# Altium integrated library Actel ProASIC3E.IntLib: 182 symbols (part 24 of 49)
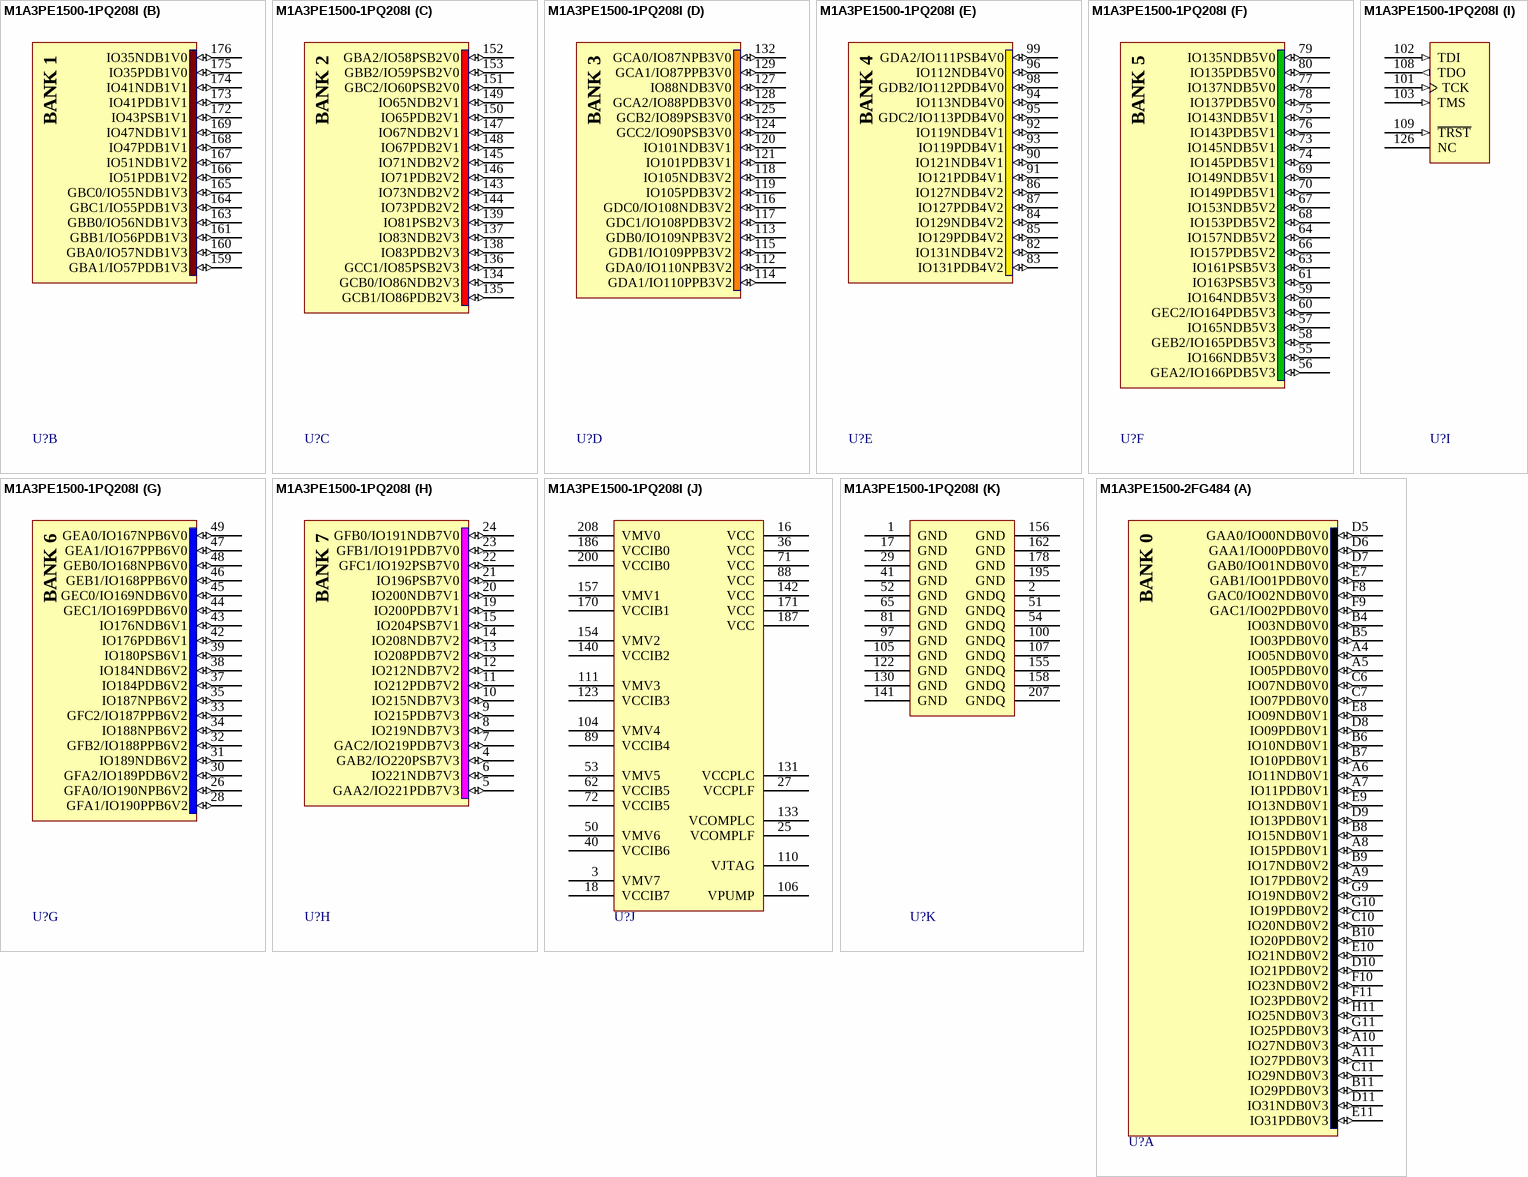
[diagram p329: symbols M1A3PE1500-1PQ208I to M1A3PE1500-2FG484]

## M1A3PE1500-1PQ208I
designator U?
M1-Ready ProASIC3E Flash Family FPGA, 147 User IOs, 1.5M System Gates, 270 Kbits RAM, 1 Kbit FlashROM, 2 PLLs, 208-Pin PQFP, Industrial Grade; DatasheetVersion: v1.1, Feb-2009; PackageVersion: ver11.2, Nov-2009; PackageReference: PQ208; PackageDescription: 208-Pin Plastic Quad Flat Pack (PQ208); Code_JEDEC: MS-029-FA-1; ComponentLink1Description: Manufacturer URL; ComponentLink1URL: http://www.actel.com/; ComponentLink2Description: ProASIC3 Datasheet; ComponentLink2URL: http://www.actel.com/documents/PA3E_DS.pdf; ComponentLink3Description: Package Mechanical Drawings; ComponentLink3URL: http://www.actel.com/documents/PckgMechDrwngs.pdf; ComponentLink4Description: ProASIC3 Documents; ComponentLink4URL: http://www.actel.com/products/pa3/docs.aspx
footprint PQ208_N (Shrink QFP, 208-Leads, Body 28x28mm, Pitch 0.5mm, IPC Medium Density)
footprint PQ208_L (Shrink QFP, 208-Leads, Body 28x28mm, Pitch 0.5mm, IPC High Density)
footprint PQ208_M (Shrink QFP, 208-Leads, Body 28x28mm, Pitch 0.5mm, IPC Low Density)
part A pins: 177 IO31PDB0V3 (io), 179 IO31NDB0V3 (io), 180 IO29PDB0V3 (io), 181 IO29NDB0V3 (io), 182 IO27PDB0V3 (io), 183 IO27NDB0V3 (io), 184 IO23PDB0V2 (io), 185 IO23NDB0V2 (io), 188 IO18PDB0V2 (io), 189 IO18NDB0V2 (io), 190 IO15PDB0V1 (io), 191 IO15NDB0V1 (io), 192 IO12PSB0V1 (io), 193 IO11PDB0V1 (io), 194 IO11NDB0V1 (io), 196 IO08PDB0V1 (io), 197 IO08NDB0V1 (io), 198 IO05PDB0V0 (io), 199 IO05NDB0V0 (io), 201 GAC1/IO02PDB0V0 (io), 202 GAC0/IO02NDB0V0 (io), 203 GAB1/IO01PDB0V0 (io), 204 GAB0/IO01NDB0V0 (io), 205 GAA1/IO00PDB0V0 (io), 206 GAA0/IO00NDB0V0 (io)
part B pins: 159 GBA1/IO57PDB1V3 (io), 160 GBA0/IO57NDB1V3 (io), 161 GBB1/IO56PDB1V3 (io), 163 GBB0/IO56NDB1V3 (io), 164 GBC1/IO55PDB1V3 (io), 165 GBC0/IO55NDB1V3 (io), 166 IO51PDB1V2 (io), 167 IO51NDB1V2 (io), 168 IO47PDB1V1 (io), 169 IO47NDB1V1 (io), 172 IO43PSB1V1 (io), 173 IO41PDB1V1 (io), 174 IO41NDB1V1 (io), 175 IO35PDB1V0 (io), 176 IO35NDB1V0 (io)
part C pins: 134 GCB0/IO86NDB2V3 (io), 135 GCB1/IO86PDB2V3 (io), 136 GCC1/IO85PSB2V3 (io), 137 IO83NDB2V3 (io), 138 IO83PDB2V3 (io), 139 IO81PSB2V3 (io), 143 IO73NDB2V2 (io), 144 IO73PDB2V2 (io), 145 IO71NDB2V2 (io), 146 IO71PDB2V2 (io), 147 IO67NDB2V1 (io), 148 IO67PDB2V1 (io), 149 IO65NDB2V1 (io), 150 IO65PDB2V1 (io), 151 GBC2/IO60PSB2V0 (io), 152 GBA2/IO58PSB2V0 (io), 153 GBB2/IO59PSB2V0 (io)
part D pins: 112 GDA0/IO110NPB3V2 (io), 113 GDB0/IO109NPB3V2 (io), 114 GDA1/IO110PPB3V2 (io), 115 GDB1/IO109PPB3V2 (io), 116 GDC0/IO108NDB3V2 (io), 117 GDC1/IO108PDB3V2 (io), 118 IO105NDB3V2 (io), 119 IO105PDB3V2 (io), 120 IO101NDB3V1 (io), 121 IO101PDB3V1 (io), 124 GCC2/IO90PSB3V0 (io), 125 GCB2/IO89PSB3V0 (io), 127 IO88NDB3V0 (io), 128 GCA2/IO88PDB3V0 (io), 129 GCA1/IO87PPB3V0 (io), 132 GCA0/IO87NPB3V0 (io)
part E pins: 82 IO131NDB4V2 (io), 83 IO131PDB4V2 (io), 84 IO129NDB4V2 (io), 85 IO129PDB4V2 (io), 86 IO127NDB4V2 (io), 87 IO127PDB4V2 (io), 90 IO121NDB4V1 (io), 91 IO121PDB4V1 (io), 92 IO119NDB4V1 (io), 93 IO119PDB4V1 (io), 94 IO113NDB4V0 (io), 95 GDC2/IO113PDB4V0 (io), 96 IO112NDB4V0 (io), 98 GDB2/IO112PDB4V0 (io), 99 GDA2/IO111PSB4V0 (io)
part F pins: 55 IO166NDB5V3 (io), 56 GEA2/IO166PDB5V3 (io), 57 IO165NDB5V3 (io), 58 GEB2/IO165PDB5V3 (io), 59 IO164NDB5V3 (io), 60 GEC2/IO164PDB5V3 (io), 61 IO163PSB5V3 (io), 63 IO161PSB5V3 (io), 64 IO157NDB5V2 (io), 66 IO157PDB5V2 (io), 67 IO153NDB5V2 (io), 68 IO153PDB5V2 (io), 69 IO149NDB5V1 (io), 70 IO149PDB5V1 (io), 73 IO145NDB5V1 (io), 74 IO145PDB5V1 (io), 75 IO143NDB5V1 (io), 76 IO143PDB5V1 (io), 77 IO137NDB5V0 (io), 78 IO137PDB5V0 (io), 79 IO135NDB5V0 (io), 80 IO135PDB5V0 (io)
part G pins: 26 GFA0/IO190NPB6V2 (io), 28 GFA1/IO190PPB6V2 (io), 30 GFA2/IO189PDB6V2 (io), 31 IO189NDB6V2 (io), 32 GFB2/IO188PPB6V2 (io), 33 GFC2/IO187PPB6V2 (io), 34 IO188NPB6V2 (io), 35 IO187NPB6V2 (io), 37 IO184PDB6V2 (io), 38 IO184NDB6V2 (io), 39 IO180PSB6V1 (io), 42 IO176PDB6V1 (io), 43 IO176NDB6V1 (io), 44 GEC1/IO169PDB6V0 (io), 45 GEC0/IO169NDB6V0 (io), 46 GEB1/IO168PPB6V0 (io), 47 GEA1/IO167PPB6V0 (io), 48 GEB0/IO168NPB6V0 (io), 49 GEA0/IO167NPB6V0 (io)
part H pins: 4 GAB2/IO220PSB7V3 (io), 5 GAA2/IO221PDB7V3 (io), 6 IO221NDB7V3 (io), 7 GAC2/IO219PDB7V3 (io), 8 IO219NDB7V3 (io), 9 IO215PDB7V3 (io), 10 IO215NDB7V3 (io), 11 IO212PDB7V2 (io), 12 IO212NDB7V2 (io), 13 IO208PDB7V2 (io), 14 IO208NDB7V2 (io), 15 IO204PSB7V1 (io), 19 IO200PDB7V1 (io), 20 IO200NDB7V1 (io), 21 IO196PSB7V0 (io), 22 GFC1/IO192PSB7V0 (io), 23 GFB1/IO191PDB7V0 (io), 24 GFB0/IO191NDB7V0 (io)
part I pins: 101 TCK (in), 102 TDI (in), 103 TMS (in), 108 TDO (out), 109 ~{TRST} (in), 126 NC
part J pins: 3 VMV7 (power), 16 VCC (power), 18 VCCIB7 (power), 25 VCOMPLF (power), 27 VCCPLF (power), 36 VCC (power), 40 VCCIB6 (power), 50 VMV6 (power), 53 VMV5 (power), 62 VCCIB5 (power), 71 VCC (power), 72 VCCIB5 (power), 88 VCC (power), 89 VCCIB4 (power), 104 VMV4 (power), 106 VPUMP (power), 110 VJTAG (power), 111 VMV3 (power), 123 VCCIB3 (power), 131 VCCPLC (power), 133 VCOMPLC (power), 140 VCCIB2 (power), 142 VCC (power), 154 VMV2 (power), 157 VMV1 (power), 170 VCCIB1 (power), 171 VCC (power), 186 VCCIB0 (power), 187 VCC (power), 200 VCCIB0 (power), 208 VMV0 (power)
part K pins: 1 GND (power), 2 GNDQ (power), 17 GND (power), 29 GND (power), 41 GND (power), 51 GNDQ (power), 52 GND (power), 54 GNDQ (power), 65 GND (power), 81 GND (power), 97 GND (power), 100 GNDQ (power), 105 GND (power), 107 GNDQ (power), 122 GND (power), 130 GND (power), 141 GND (power), 155 GNDQ (power), 156 GND (power), 158 GNDQ (power), 162 GND (power), 178 GND (power), 195 GND (power), 207 GNDQ (power)
part A text: BANK 0
part B text: BANK 1
part C text: BANK 2
part D text: BANK 3
part E text: BANK 4
part F text: BANK 5
part G text: BANK 6
part H text: BANK 7

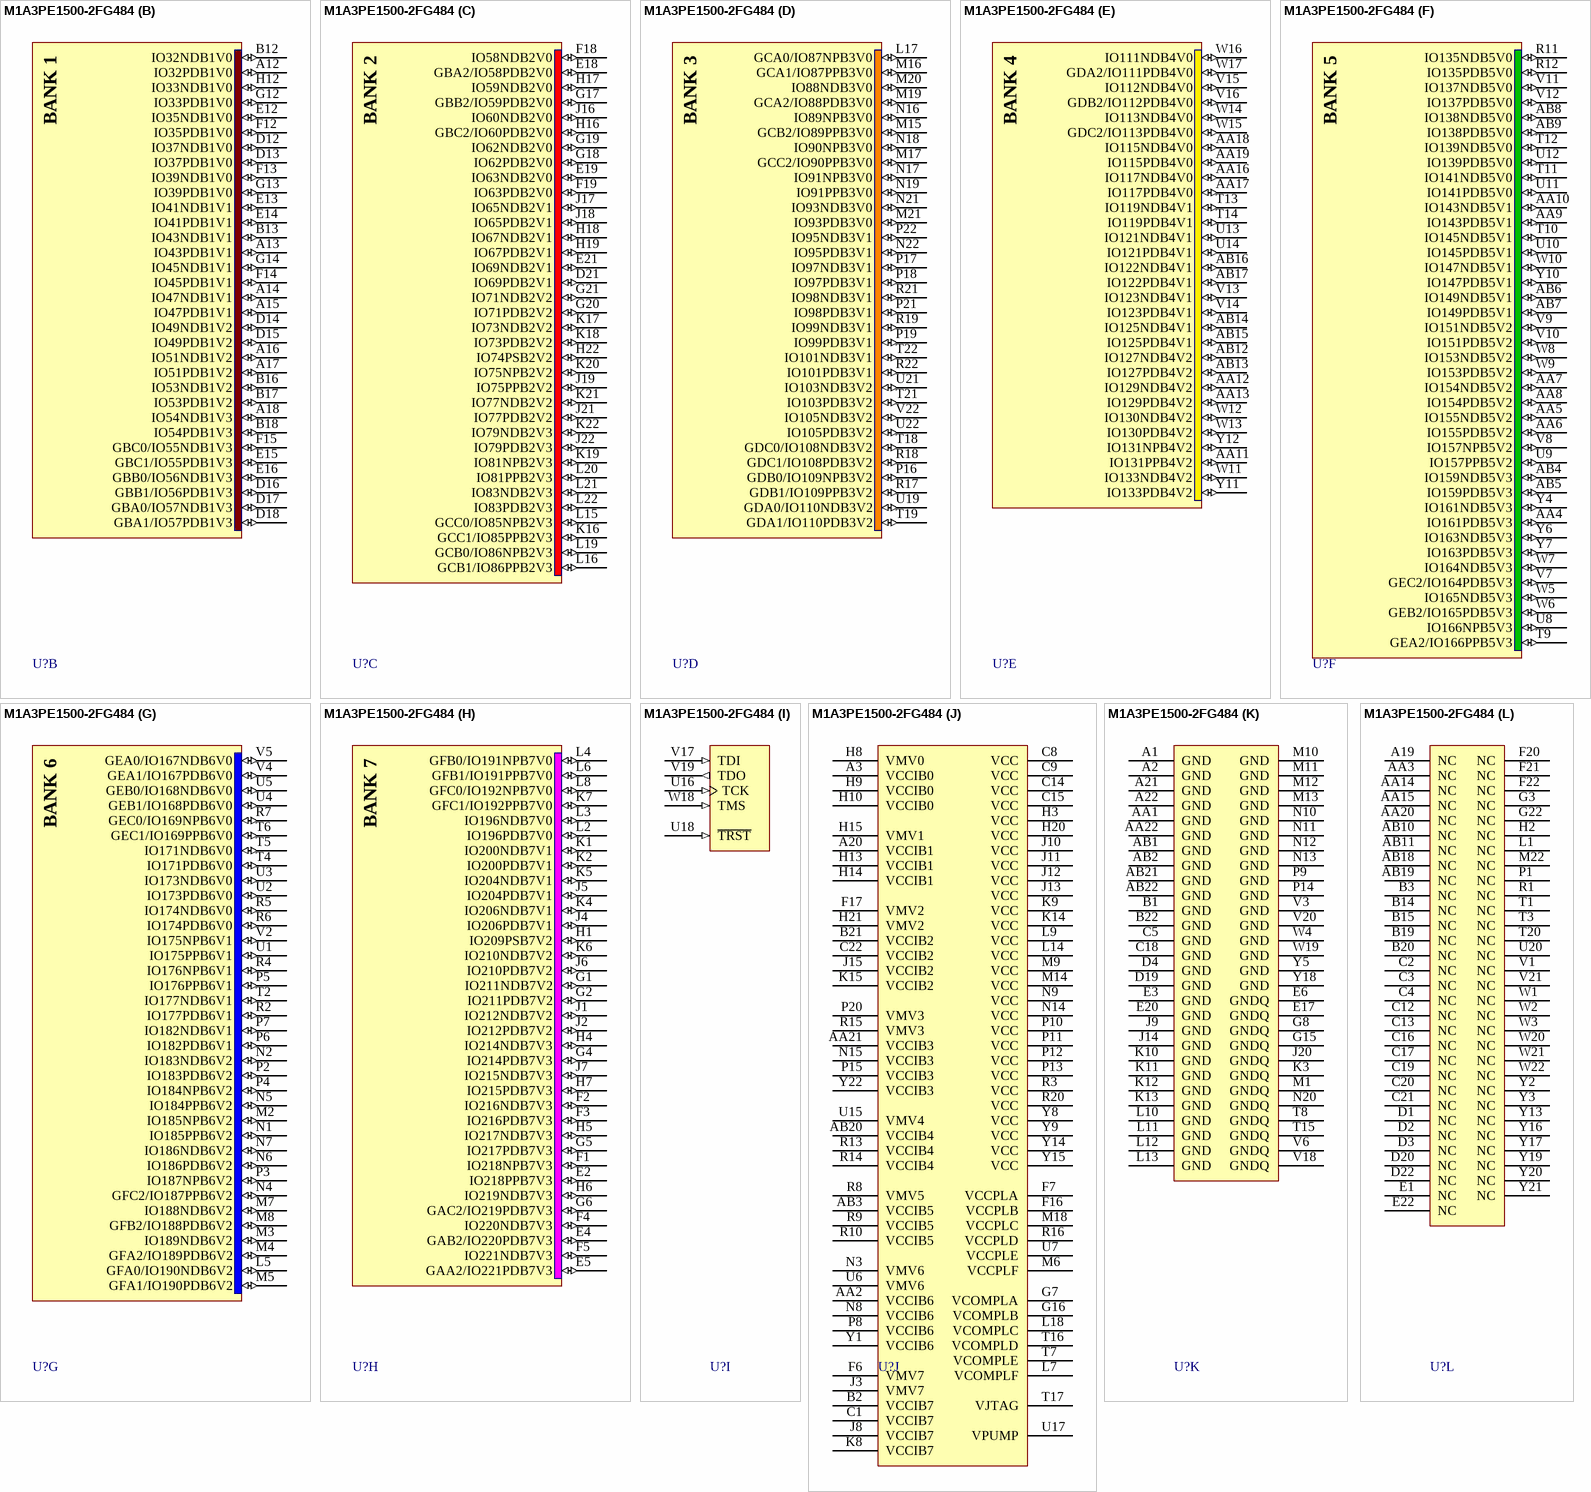
[diagram p88: symbol M1A3PE1500-2FG484]